# Altium footprint library bowtie.PcbLib: 37 footprints (part 3 of 3)
Each footprint in its own frame and in the unit in brackets; x right, y up, seen from the top. Pads: shape width x height; smd on the part's side, far side on the other; paste and mask are expansions set on the pad; w line width, h text height; cw(c..) or ccw(c..) is an arc to the next point about the centre after c.
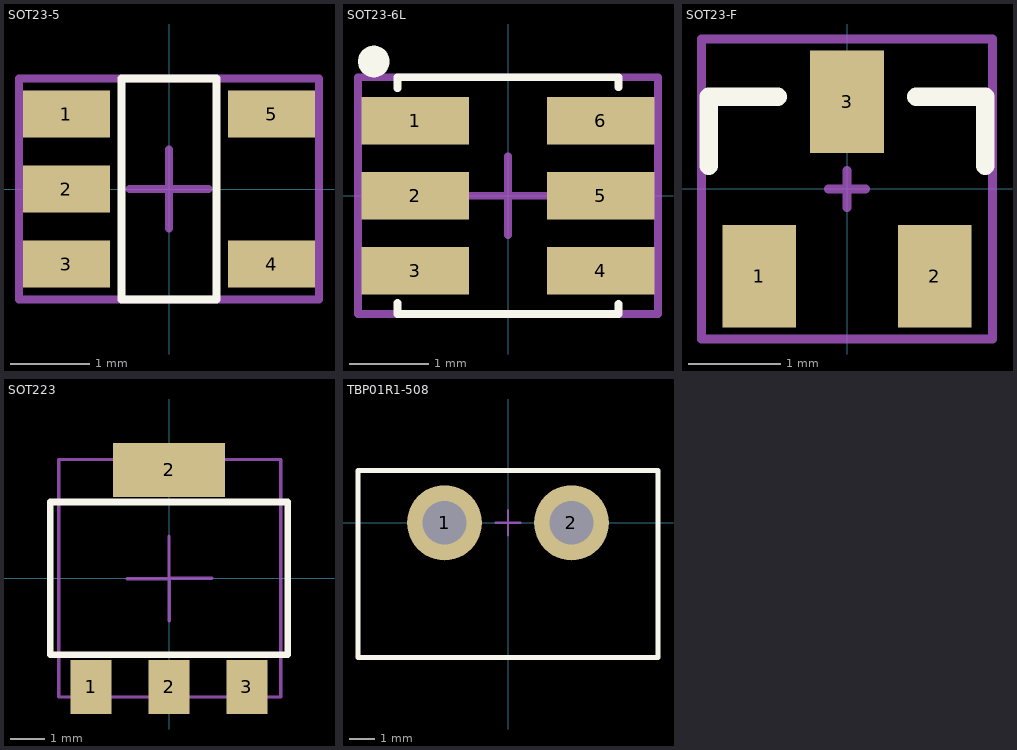
[diagram p2: the footprints below, top view; thin cyan lines are the x and y axes]

## SOT23-5 [mm]
pads (5):
  rect 1.1x0.6 smd mask+0.05: 1(-1.3,0.95) 2(-1.3,0) 3(-1.3,-0.95) 4(1.3,-0.95) 5(1.3,0.95)
Top Overlay:
  lines w0.1: -0.6,-1.4 -0.6,1.4 0.6,1.4 0.6,-1.4 -0.6,-1.4
Top Component Center:
  lines w0.1: -0.5,0 0.5,0 ; 0,-0.5 0,0.5 ; -1.9,-1.4 1.9,-1.4 1.9,1.4 -1.9,1.4 -1.9,-1.4
Top Designator:
  lines w0.1: -1.9,-1.4 -1.9,1.4 1.9,1.4 1.9,-1.4 -1.9,-1.4
  text ".Designator" at -0.4,-0.567 h1.3
3D body "OPA314AIDBVR.STEP": height 1.45, standoff 0, extent -1.4,-1.45 1.4,1.45

## SOT23-6L [mm]
pads (6):
  rect 1.36x0.6 smd mask+0.05: 1(-1.175,0.95) 2(-1.175,0) 3(-1.175,-0.95) 4(1.175,-0.95) 5(1.175,0) 6(1.175,0.95)
Top Overlay:
  circle w0.2: c-1.7,1.7 r0.1
  lines w0.1: -1.4,-1.361 -1.4,-1.5 -1.3,-1.5 1.4,-1.5 1.4,-1.374 ; -1.4,1.361 -1.4,1.5 -1.3,1.5 1.4,1.5 1.4,1.374
Top Component Center:
  lines w0.1: -0.5,0 0.5,0 ; 0,-0.5 0,0.5 ; -1.9,-1.5 -1.9,1.5 1.9,1.5 1.9,-1.5 -1.9,-1.5
Top Designator:
  lines w0.1: -1.9,-1.5 -1.9,1.5 1.9,1.5 1.9,-1.5 -1.9,-1.5
  text ".Designator" at -1.88,-0.713 h1.4
3D body "USBLC6-2SC6.STEP": height 1.45, standoff 0, extent -1.4,-1.463 1.4,1.462

## SOT23-F [mm]
pads (3):
  rect 0.8x1.11 smd paste-2539.97 mask+0.05: 1(-0.95,-0.945) 2(0.95,-0.945) 3(0,0.945)
Top Overlay:
  lines w0.2: -1.5,0.25 -1.5,1 -0.75,1 ; 0.75,1 1.5,1 1.5,0.25
Top 3D Body:
  lines w0.1: -1.575,-1.625 1.575,-1.625 1.575,1.625 -1.575,1.625 -1.575,-1.625
Top Component Center:
  lines w0.1: -0.2,0 0.2,0 0,0 ; 0,0 0,0.2 0,-0.2 0,0 ; -1.575,-1.625 1.575,-1.625 1.575,1.625 -1.575,1.625 -1.575,-1.625
Top Designator:
  text ".Designator" at -0.35,-0.333 h0.8
3D body "SOT23-3.stp": height 1.2, standoff 0.02, extent -1.5,-1.418 1.5,1.418

## SOT223 [mm]
pads (4):
  rect 1.2x1.6 smd paste-2539.97 mask+0.05: 1(-2.3,-3.2) 2(0,-3.2) 3(2.3,-3.2)
  rect 3.3x1.6 smd paste-2539.97 mask+0.05: 2(0,3.2)
Top Overlay:
  lines w0.2: -3.5,-2.25 1.5,-2.25 3.5,-2.25 3.5,2.25 -3.5,2.25 -3.5,-2.25
Top 3D Body:
  lines w0.1: -3.249,-3.5 3.3,-3.5 3.3,3.5 3.291,3.509 -3.249,3.509 -3.249,-3.5
Top Component Center:
  lines w0.1: -1.239,-0.01 0.011,-0.01 ; 0,0 0,1.25 ; 0.006,-1.254 0.006,-0.004 ; 0.006,0.001 1.256,0.001 ; -3.249,-3.5 -3.249,3.509 3.291,3.509 3.3,3.5 3.3,-3.5 -3.249,-3.5
3D body "SOT223.STEP": height 1.75, standoff -0.05, extent -3.25,-3.499 3.25,3.499

## TBP01R1-508 [mm]
pads (2):
  round 3 hole 1.75 mask+0.05: 1(-2.54,0) 2(2.54,0)
Top Overlay:
  lines w0.2: -6,-5.4 6,-5.4 6,-2.2 6,2.1 -6,2.1 -6,-5.4
Top Component Center:
  lines w0.1: -0.5,0 0.5,0 ; 0,-0.5 0,0.5 ; -6,-5.4 6,-5.4 6,2.1 -6,2.1 -6,-5.4
Top Designator:
  lines w0.1: -6,-5.4 6,-5.4 6,2.1 -6,2.1 -6,-5.4
  text ".Designator" at -3.746,-1.738 h1.52
3D body "CUI_DEVICES_TBP01R1-508-02BE.step": height 8.55, standoff -3.95, extent -5.88,-10 5.88,2